# EAGLE library part SIEMENS-LOGO-230VAC (library 1A-meinLib)
Siemens LOGO! Grundmodul 230VAC
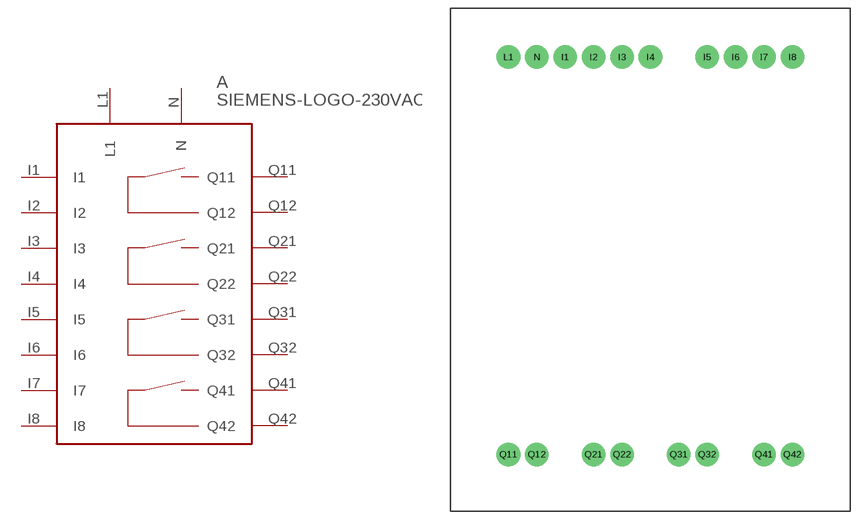
[diagram p296: symbol with the pads of SIEMENS-LOGO-230VAC; footprint SIEMENS-LOGO-230VAC]

Designator prefix A

## SIEMENS-LOGO-230VAC  [SIEMENS-LOGO-230VAC]
I1  I1  pas
I2  I2  pas
I3  I3  pas
I4  I4  pas
I5  I5  pas
I6  I6  pas
I7  I7  pas
I8  I8  pas
L1  L1  pas
N  N  pas
Q11  Q11  pas
Q12  Q12  pas
Q21  Q21  pas
Q22  Q22  pas
Q31  Q31  pas
Q32  Q32  pas
Q41  Q41  pas
Q42  Q42  pas

## Footprint SIEMENS-LOGO-230VAC (pad centres in mm)
Siemens LOGO! Grundgerät
drill 3.2 round: I1 -15.24,81.28; I2 -10.16,81.28; I3 -5.08,81.28; I4 0,81.28; I5 10.16,81.28; I6 15.24,81.28; I7 20.32,81.28; I8 25.4,81.28; L1 -25.4,81.28; N -20.32,81.28; Q11 -25.4,10.16; Q12 -20.32,10.16; Q21 -10.16,10.16; Q22 -5.08,10.16; Q31 5.08,10.16; Q32 10.16,10.16; Q41 20.32,10.16; Q42 25.4,10.16